# Altium schematic symbol library net_tie.SchLib: 1 symbol
Pins are listed as number, name and electrical type; pins without a type are passive.

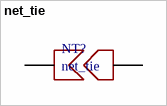
[diagram p0: symbol net_tie]

## net_tie
designator NT?
net tie запаиваемая перемычка
pins: 1, 2